# Altium footprint library MotorDrives.PcbLib: 1 footprints
Each footprint in its own frame and in the unit in brackets; x right, y up, seen from the top. Pads: shape width x height; smd on the part's side, far side on the other; paste and mask are expansions set on the pad; w line width, h text height; cw(c..) or ccw(c..) is an arc to the next point about the centre after c.
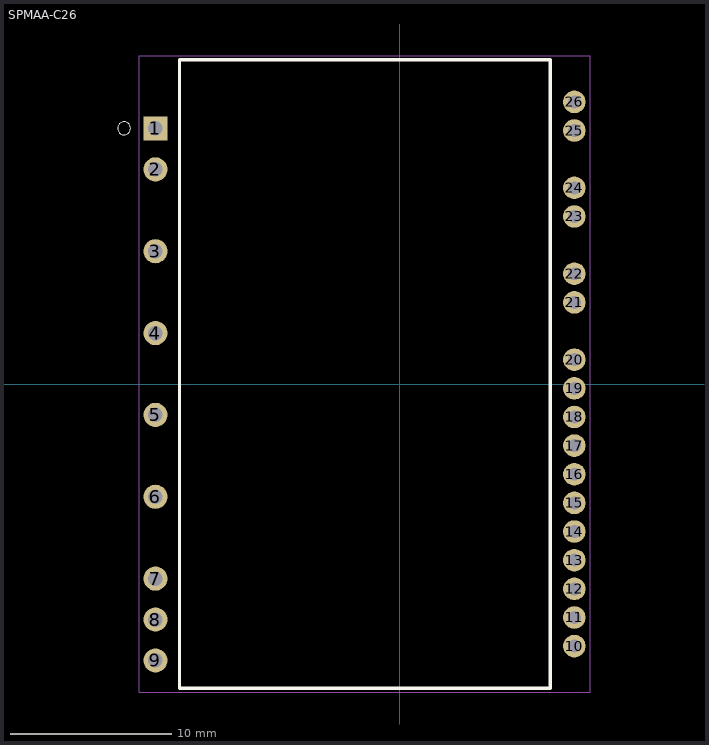
[diagram p0: the footprint, top view; thin cyan lines are the x and y axes]

## SPMAA-C26 [mm]
pads (26):
  rect 1.5x1.5 hole 0.9: 1(-15.159,15.875)
  round 1.5 hole 0.9: 2(-15.159,13.335) 3(-15.159,8.255) 4(-15.159,3.175) 5(-15.159,-1.905) 6(-15.159,-6.985) 7(-15.159,-12.065) 8(-15.159,-14.605) 9(-15.159,-17.145)
  round 1.4 hole 0.8: 10(10.841,-16.256) 11(10.841,-14.478) 12(10.841,-12.7) 13(10.841,-10.922) 14(10.841,-9.144) 15(10.841,-7.366) 16(10.841,-5.588) 17(10.841,-3.81) 18(10.841,-2.032) 19(10.841,-0.254) 20(10.841,1.524) 21(10.841,5.08) 22(10.841,6.858) 23(10.841,10.414) 24(10.841,12.192) 25(10.841,15.748) 26(10.841,17.526)
Top Overlay:
  circle w0.05: c-17.109,15.885 r0.403
  lines w0.2: -13.659,-18.865 -13.659,20.135 9.341,20.135 9.341,-18.865 -13.659,-18.865
Mechanical 16:
  lines w0.05: -16.159,-19.115 11.841,-19.115 11.841,20.385 -16.159,20.385 -16.159,-19.115
3D body "FNB41060.STEP": height 4.79, standoff -5.21, extent -15.986,-18.923 11.414,20.077